# EAGLE library part 1EDN7550UXTSA1 (library 1EDN7550UXTSA1)
IC GATE DRVR HIGH-SIDE 6XFDFN Source: Datasheet <https://www.infineon.com/dgdl/Infineon-1EDN7550U-DataSheet-v02_02-EN.pdf?fileId=5546d462700c0ae60170522057e14b61>
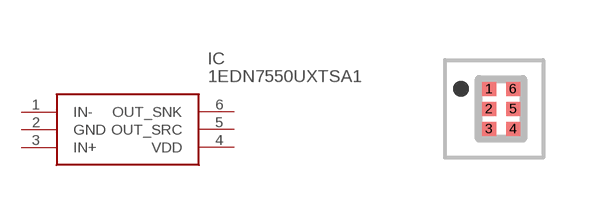
[diagram p0: symbol with the pads of 1EDN7550UXTSA1; footprint 1EDN7550UXTSA1]

Designator prefix IC

## 1EDN7550UXTSA1 (Arrow_Part_Number: 1EDN7550UXTSA1; Arrow_Price-Stock: https://www.arrow.com/en/products/1edn7550uxtsa1/infineon-technologies-ag; Description: IC GATE DRVR HIGH-SIDE 6XFDFN; Height: 0.4mm; Manufacturer_Name: Infineon; Manufacturer_Part_Number: 1EDN7550UXTSA1; Mouser_Part_Number: 726-1EDN7550UXTSA1; Mouser_Price-Stock: https://www.mouser.co.uk/ProductDetail/Infineon-Technologies/1EDN7550UXTSA1?qs=vHuUswq2%252BsxVuatVX7bkPw%3D%3D)  [1EDN7550UXTSA1]
1  IN-
2  GND
3  IN+
4  VDD
5  OUT_SRC
6  OUT_SNK

## Footprint 1EDN7550UXTSA1 (pad centres in mm)
TSNP-6
smd 0.35 x 0.35: 1 -0.3,0.5; 2 -0.3,0; 3 -0.3,-0.5; 4 0.3,-0.5; 5 0.3,0; 6 0.3,0.5